# Altium footprint library zx.PcbLib: 12 footprints
Each footprint in its own frame and in the unit in brackets; x right, y up, seen from the top. Pads: shape width x height; smd on the part's side, far side on the other; paste and mask are expansions set on the pad; w line width, h text height; cw(c..) or ccw(c..) is an arc to the next point about the centre after c.
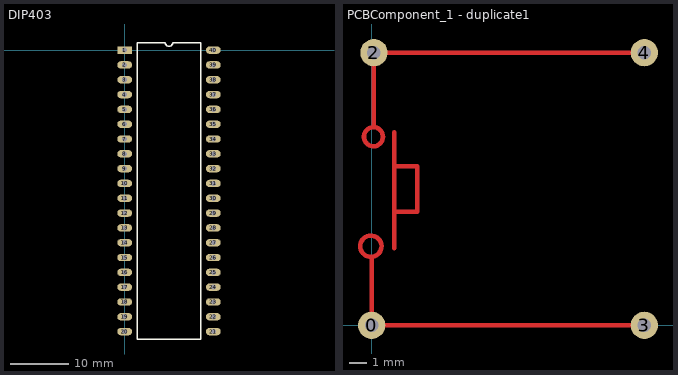
[diagram p0: the footprints below, top view; thin cyan lines are the x and y axes]

## Axial 0.6 [mil]

## DIP40 [mil]

## DIP40 - duplicate [mil]

## DIP40 - duplicate1 [mil]

## DIP401 [mil]

## DIP402 [mil]

## DIP403 [mil]
pads (40):
  rect 100x50 hole 34.44: 1(0,0)
  oval 100x50 hole 34.44: 2(0,-100.25) 3(0,-200.5) 4(0,-300.75) 5(0,-401) 6(0,-501.25) 7(0,-601.5) 8(0,-701.75) 9(0,-802) 10(0,-902.25) 11(0,-1002.5) 12(0,-1102.75) 13(0,-1203) 14(0,-1303.25) 15(0,-1403.5) 16(0,-1503.75) 17(0,-1604) 18(0,-1704.25) 19(0,-1804.5) 20(0,-1904.75) 21(600,-1904.75) 22(600,-1804.5) 23(600,-1704.25) 24(600,-1604) 25(600,-1503.75) 26(600,-1403.5) 27(600,-1303.25) 28(600,-1203) 29(600,-1102.75) 30(600,-1002.5) 31(600,-902.25) 32(600,-802) 33(600,-701.75) 34(600,-601.5) 35(600,-501.25) 36(600,-401) 37(600,-300.75) 38(600,-200.5) 39(600,-100.25) 40(600,0)
Top Overlay:
  lines w10: 85,-1954.88 85,50.12 274.94,50.12 ccw(c300,50.12) 325.06,50.12 515,50.12 515,-1954.88 85,-1954.88

## PCBComponent_1 [mil]

## PCBComponent_1 - duplicate [mil]

## PCBComponent_1 - duplicate1 [mil]
pads (4):
  round 60 hole 30: 0(0,0) 2(5,600) 3(600,0) 4(600,600)
Top Layer:
  circle w10: c4.05,415 r20.95
  lines w10: 0,150 0,0 600,0 ; 5,440 5,600 600,600 ; 21.79,174.05 cw(c-1.61,174.05) 21.78,174.88 ; 50,170 50,425 ; 50,250 100,250 100,350 50,350

## PCBComponent_1 - duplicate2 [mil]

## PCBComponent_1 - duplicate3 [mil]